# EAGLE library part 233-103/000-023 (library con-wago_233)
Stand: 01.01.2014. Die jeweils aktuellen Daten zu diesem Artikel finden Sie in unserem Produktkatalog, den Sie unter www.wago.com einsehen können. As of: 01/01/2014. Please find the newest data for this article in our product catalogue, which can be viewed under www.wago.com.
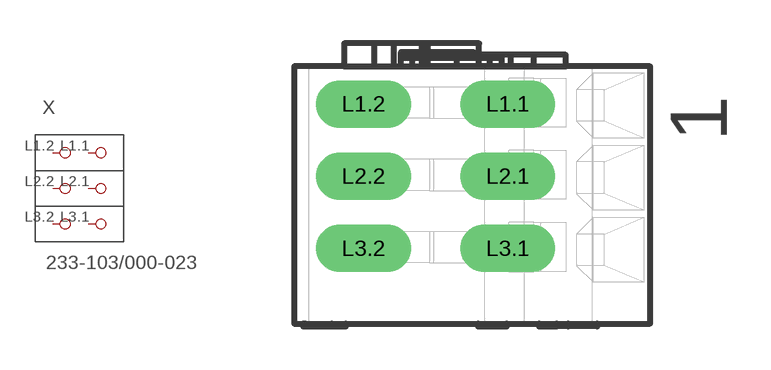
[diagram p66: symbol with the pads of P-233-103; footprint P-233-103]

Designator prefix X

## 233-103/000-023  [P-233-103]
L1.1  P1.1
L1.2  P1.2
L2.1  P2.1
L2.2  P2.2
L3.1  P3.1
L3.2  P3.2

## Footprint P-233-103 (pad centres in mm)
drill 1.1 long: L1.1 1.238,2.8; L1.2 -3.762,2.8; L2.1 1.238,0.3; L2.2 -3.762,0.3; L3.1 1.238,-2.2; L3.2 -3.762,-2.2